# EAGLE library part XBEE (library machine_science)
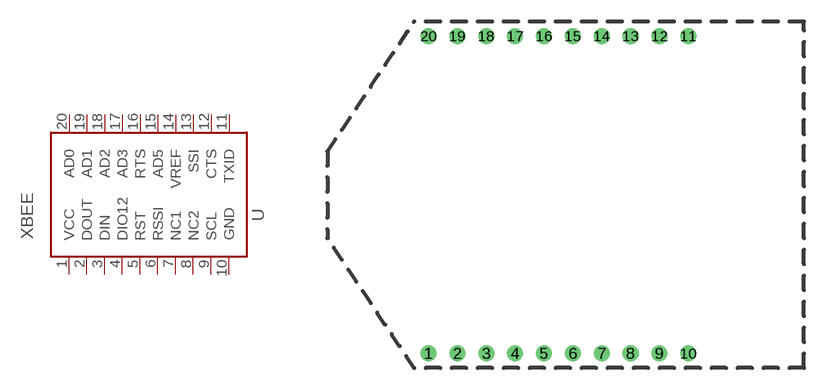
[diagram p0: symbol with the pads of XBEE; footprint XBEE]

Designator prefix U

## XBEE  [XBEE]
1  VCC  pwr
2  DOUT
3  DIN
4  DIO12
5  RST
6  RSSI
7  NC1
8  NC2
9  SCL
10  GND  pwr
11  TXID
12  CTS
13  SSI
14  VREF
15  AD5
16  RTS
17  AD3
18  AD2
19  AD1
20  AD0

## Footprint XBEE (pad centres in mm)
drill 0.6 round: 1 -9.19,-10.81; 2 -7.19,-10.81; 3 -5.19,-10.81; 4 -3.19,-10.81; 5 -1.19,-10.81; 6 0.81,-10.81; 7 2.81,-10.81; 8 4.81,-10.81; 9 6.81,-10.81; 10 8.81,-10.81; 11 8.81,11.19; 12 6.81,11.19; 13 4.81,11.19; 14 2.81,11.19; 15 0.81,11.19; 16 -1.19,11.19; 17 -3.19,11.19; 18 -5.19,11.19; 19 -7.19,11.19; 20 -9.19,11.19